# EAGLE library part ジャイロ (library ジャイロセンサ)
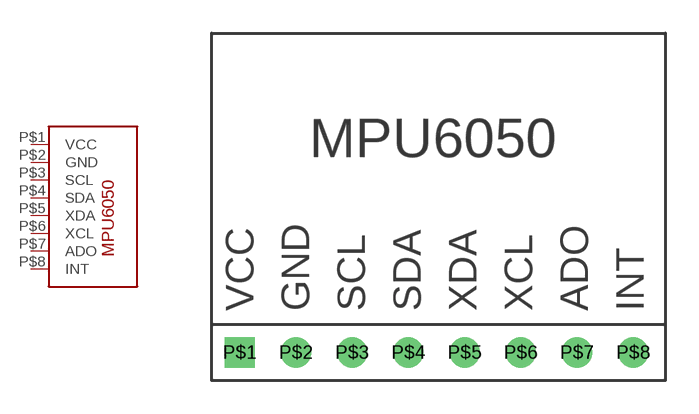
[diagram p0: symbol with the pads of ジャイロ; footprint ジャイロ]

Designator prefix -

## ジャイロ  [ジャイロ]
P$1  VCC
P$2  GND
P$3  SCL
P$4  SDA
P$5  XDA
P$6  XCL
P$7  ADO
P$8  INT

## Footprint ジャイロ (pad centres in mm)
drill 0.85 square: P$1 1.27,1.27
drill 0.85: P$2 3.81,1.27; P$3 6.35,1.27; P$4 8.89,1.27; P$5 11.43,1.27; P$6 13.97,1.27; P$7 16.51,1.27; P$8 19.05,1.27